# Altium footprint library WT32.PcbLib: 1 footprints
Each footprint in its own frame and in the unit in brackets; x right, y up, seen from the top. Pads: shape width x height; smd on the part's side, far side on the other; paste and mask are expansions set on the pad; w line width, h text height; cw(c..) or ccw(c..) is an arc to the next point about the centre after c.
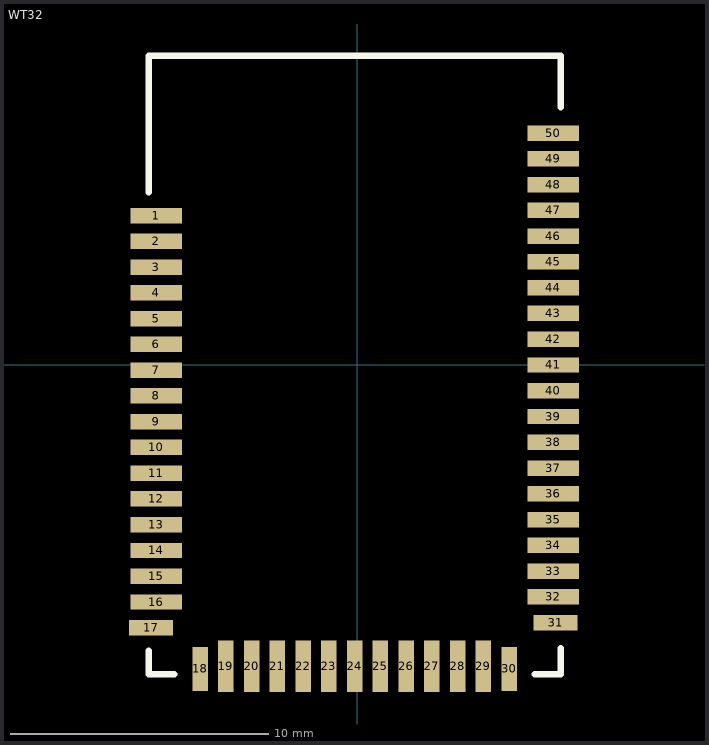
[diagram p0: the footprint, top view; thin cyan lines are the x and y axes]

## WT32 [mm] "WT32 Bluegiga module"
pads (50):
  rect 2x0.6 smd: 1(-7.8,5.8) 2(-7.8,4.8) 3(-7.8,3.8) 4(-7.8,2.8) 5(-7.8,1.8) 6(-7.8,0.8) 7(-7.8,-0.2) 8(-7.8,-1.2) 9(-7.8,-2.2) 10(-7.8,-3.2) 11(-7.8,-4.2) 12(-7.8,-5.2) 13(-7.8,-6.2) 14(-7.8,-7.2) 15(-7.8,-8.2) 16(-7.8,-9.2) 32(7.6,-9) 33(7.6,-8) 34(7.6,-7) 35(7.6,-6) 36(7.6,-5) 37(7.6,-4) 38(7.6,-3) 39(7.6,-2) 40(7.6,-1) 41(7.6,0) 42(7.6,1) 43(7.6,2) 44(7.6,3) 45(7.6,4) 46(7.6,5) 47(7.6,6) 48(7.6,7) 49(7.6,8) 50(7.6,9)
  rect 1.7x0.6 smd: 17(-8,-10.2) 31(7.7,-10)
  rect 0.6x1.7 smd: 18(-6.1,-11.8) 30(5.9,-11.8)
  rect 0.6x2 smd: 19(-5.1,-11.7) 20(-4.1,-11.7) 21(-3.1,-11.7) 22(-2.1,-11.7) 23(-1.1,-11.7) 24(-0.1,-11.7) 25(0.9,-11.7) 26(1.9,-11.7) 27(2.9,-11.7) 28(3.9,-11.7) 29(4.9,-11.7)
Top Overlay:
  lines w0.254: -7.1,-12 -8.1,-12 -8.1,-11.1 ; 6.9,-12 7.9,-12 7.9,-11 ; 7.9,10 7.9,12 -8.1,12 -8.1,6.7 ; -8.1,-11.1 -8.1,-11.1 ; -8.1,6.7 -8.1,6.7